# Altium schematic symbol library A000005.SchLib: 1 symbol
Pins are listed as number, name and electrical type; pins without a type are passive.

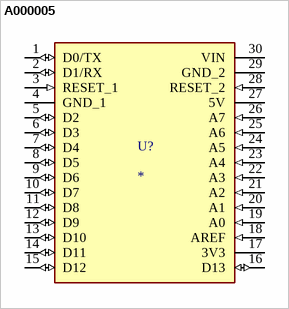
[diagram p0: symbol A000005]

## A000005
designator U?
CLOCK SAW OSCILLATOR SEAM7050 T&; MF: {'manufacturer': u'Arduino'}; MP: A000005; Price: None; Package: None; Availability: Unavailable; Value: *
footprint MODULE_A000005
pins: 1 D0/TX (io), 2 D1/RX (io), 3 RESET_1 (in), 4 GND_1 (power), 5 D2 (io), 6 D3 (io), 7 D4 (io), 8 D5 (io), 9 D6 (io), 10 D7 (io), 11 D8 (io), 12 D9 (io), 13 D10 (io), 14 D11 (io), 15 D12 (io), 16 D13 (io), 17 3V3 (power), 18 AREF (in), 19 A0 (in), 20 A1 (in), 21 A2 (in), 22 A3 (in), 23 A4 (in), 24 A5 (in), 25 A6 (in), 26 A7 (in), 27 5V (power), 28 RESET_2 (in), 29 GND_2 (power), 30 VIN (power)